# EAGLE library part AP9101C (library ds31758)
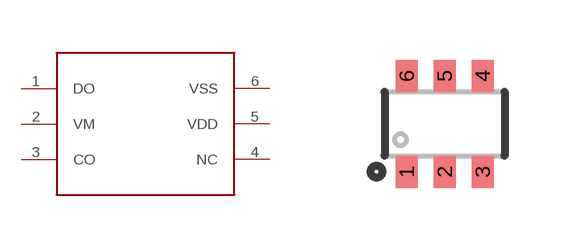
[diagram p0: symbol with the pads of SOT26; footprint SOT26]

Designator prefix -

## AP9101C  [SOT26]
1  DO
2  VM
3  CO
4  NC
5  VDD
6  VSS

## Footprint SOT26 (pad centres in mm)
Footprint for SOT-26 part DMP2240UDM
smd 0.55 x 0.8: 1 -0.95,-1.2; 2 0,-1.2; 3 0.95,-1.2; 4 0.95,1.2; 5 0,1.2; 6 -0.95,1.2